# Altium footprint library PCB1.PcbLib: 27 footprints (part 1 of 2)
Each footprint in its own frame and in the unit in brackets; x right, y up, seen from the top. Pads: shape width x height; smd on the part's side, far side on the other; paste and mask are expansions set on the pad; w line width, h text height; cw(c..) or ccw(c..) is an arc to the next point about the centre after c.
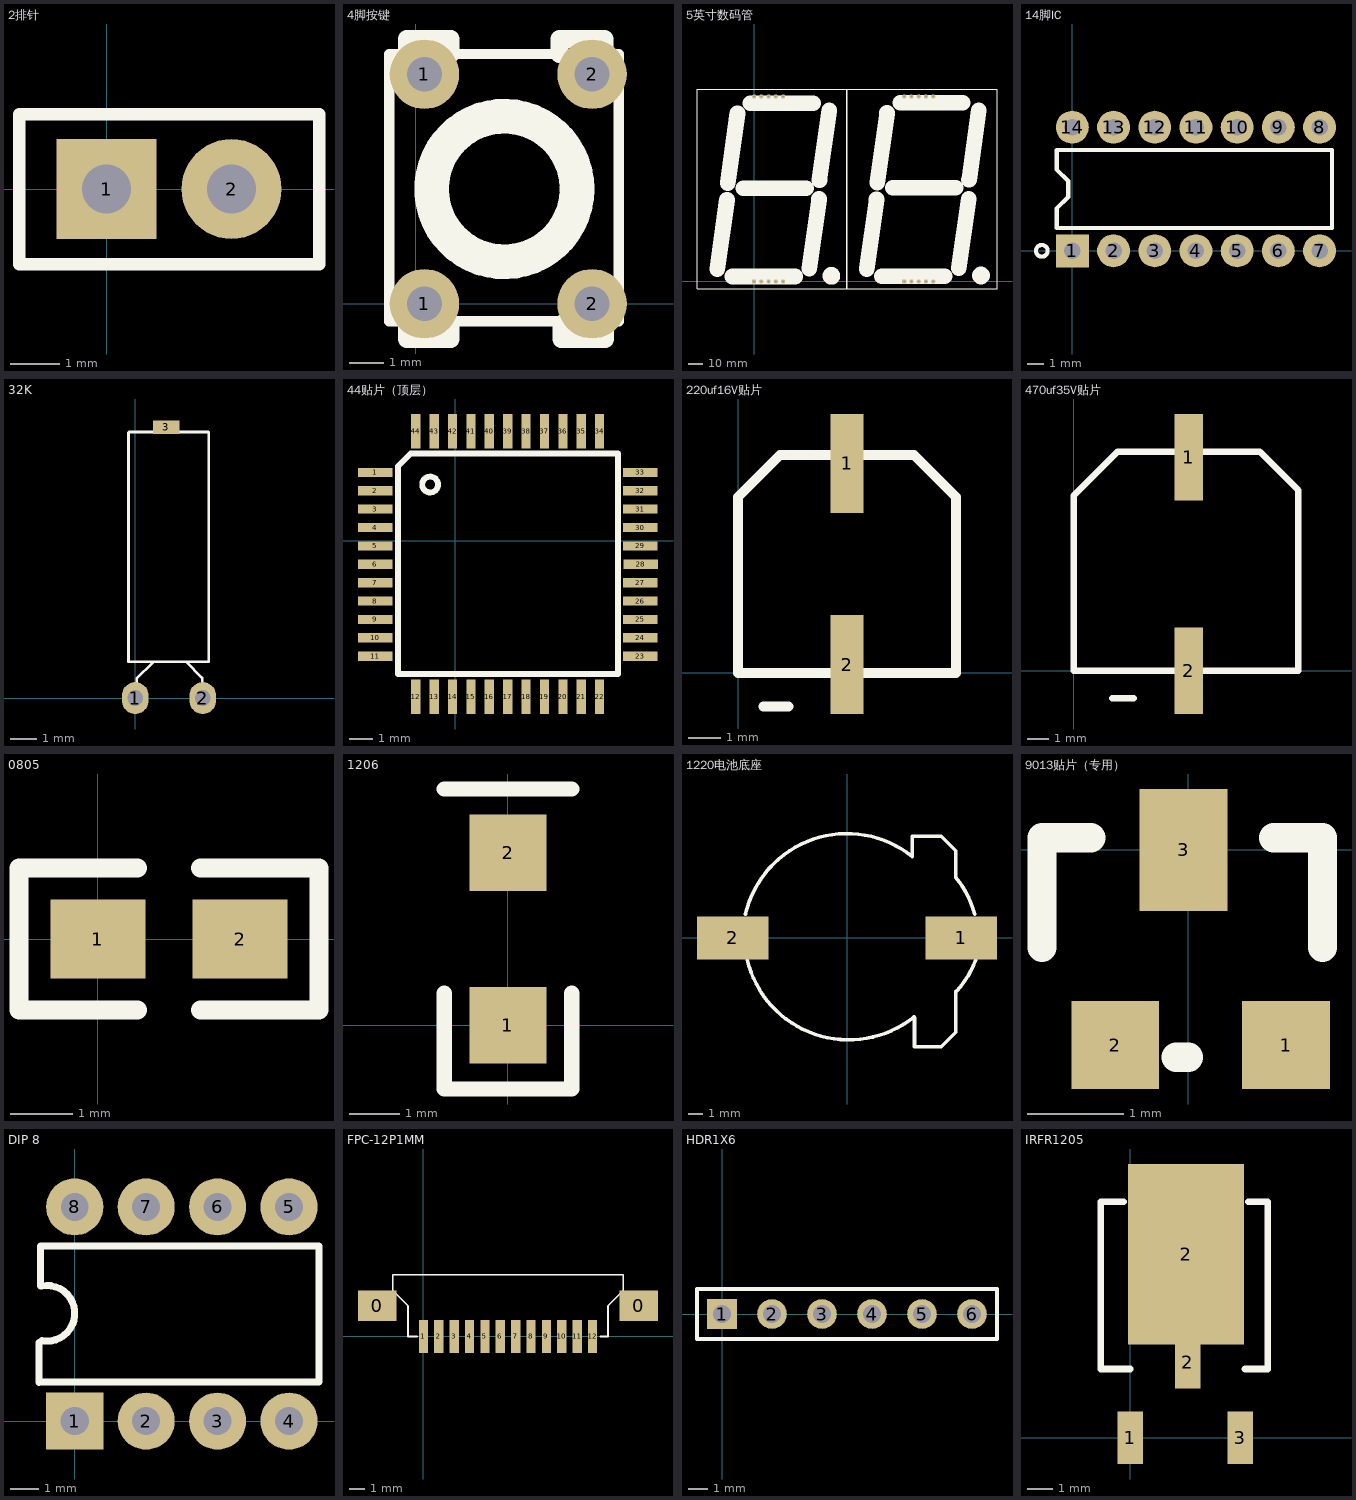
[diagram p0: the footprints below, top view; thin cyan lines are the x and y axes]

## 2排针 [mil]
pads (2):
  rect 80x80 hole 39.37: 1(0,0)
  round 80 hole 39.37: 2(100,0)
Top Overlay:
  lines w10: -70,-60 170,-60 170,60 -70,60 -70,-60

## 4脚按键 [mm]
pads (4):
  round 2 hole 1: 1(0.254,0) 1(0.254,6.604) 2(5.08,0) 2(5.08,6.604)
Top Overlay:
  circle w1: c2.554,3.302 r2.094
  lines w0.3: -0.762,-0.508 -0.762,7.188 5.842,7.188 5.842,-0.508 -0.762,-0.508
  lines w0.508: -0.254,-0.584 -0.254,-1.016 1.016,-1.016 1.016,-0.584 ; -0.254,7.188 -0.254,7.62 1.016,7.62 1.016,7.188 ; 4.14,7.188 4.14,7.62 5.436,7.62 5.436,7.188 ; 4.191,-0.584 4.191,-1.016 5.461,-1.016 5.461,-0.584

## 5英寸数码管 [mm]
pads (20):
  rect 3x3 hole 1.2: 1(0,0) 11(105.134,0)
  round 3 hole 1.2: 2(5.08,0) 3(10.16,0) 4(15.24,0) 5(20.32,0) 6(20.32,129.54) 7(15.24,129.54) 8(10.16,129.54) 9(5.08,129.54) 10(0,129.54) 12(110.214,0) 13(115.294,0) 14(120.374,0) 15(125.454,0) 16(125.454,129.54) 17(120.374,129.54) 18(115.294,129.54) 19(110.214,129.54) 20(105.134,129.54)
Top Overlay:
  circle w0.254: c157.001,5.867 r3.08
  circle w0.254: c52.883,5.842 r3.08
  circle w6.2: c158.953,4.191 r3.08
  circle w6.2: c54.178,3.937 r3.08
  lines w0.1: -39.976,-5.08 -39.976,134.645 65.024,134.645 65.024,-5.08 -39.976,-5.08 ; 65.158,-5.08 170.158,-5.08 170.158,134.645 65.158,134.645 65.158,-5.08
  lines w0.3: -21.79,11.557 -21.536,11.303 ; -20.752,13.843 -20.371,13.462 -20.498,13.335 ; -20.574,12.446 -20.193,12.065 -20.32,11.938 ; 82.985,11.811 83.239,11.557 ; 84.023,14.097 84.404,13.716 84.277,13.589 ; 84.56,12.192 84.814,11.938
  lines w11: -25.832,8.481 -18.974,57.277 ; -18.466,68.961 -11.608,117.757 ; -15.164,3.429 28.778,3.429 ; -7.544,65.405 36.398,65.405 ; -2.464,124.841 41.478,124.841 ; 38.684,8.989 45.542,57.785 ; 45.796,70.965 52.654,119.761 ; 78.943,8.735 85.801,57.531 ; 86.309,69.215 93.167,118.011 ; 89.611,3.683 133.553,3.683 ; 97.231,65.659 141.173,65.659 ; 102.311,125.095 146.253,125.095 ; 143.459,9.243 150.317,58.039 ; 150.571,71.219 157.429,120.015

## 14脚IC [mil]
pads (14):
  rect 80x80 hole 40: 1(0,0)
  round 80 hole 40: 2(100,0) 3(200,0) 4(300,0) 5(400,0) 6(500,0) 7(600,0) 8(600,300) 9(500,300) 10(400,300) 11(300,300) 12(200,300) 13(100,300) 14(0,300)
Top Overlay:
  circle w10: c-74.14,0 r14.14
  lines w10: -38,55 630,55 630,245 -38,245 -38,197.5 -10,169.5 -10,130.5 -38,102.5 -38,55

## 32K [mm]
pads (3):
  oval 1x1.2 hole 0.6: 1(0,0) 2(2.54,0)
  rect 1x0.5 smd: 3(1.168,10.185)
Top Overlay:
  lines w0.1: 0.051,0.533 0.051,0.737 0.66,1.346 ; 1.905,1.372 2.515,0.762 2.515,0.559 ; -0.254,1.372 -0.254,9.982 -0.229,10.008 2.743,10.008 2.769,9.982 2.769,1.372 -0.254,1.372

## 44贴片（顶层） [mm]
pads (44):
  rect 1.5x0.4 smd: 1(-3.492,2.971) 2(-3.492,2.171) 3(-3.492,1.371) 4(-3.492,0.571) 5(-3.492,-0.229) 6(-3.492,-1.029) 7(-3.492,-1.829) 8(-3.492,-2.629) 9(-3.492,-3.429) 10(-3.492,-4.229) 11(-3.492,-5.029) 23(8.039,-5.029) 24(8.039,-4.229) 25(8.039,-3.429) 26(8.039,-2.629) 27(8.039,-1.829) 28(8.064,-1.029) 29(8.039,-0.229) 30(8.039,0.571) 31(8.039,1.371) 32(8.039,2.171) 33(8.039,2.971)
  rect 0.4x1.5 smd: 12(-1.727,-6.795) 13(-0.927,-6.795) 14(-0.127,-6.795) 15(0.673,-6.795) 16(1.473,-6.795) 17(2.273,-6.795) 18(3.073,-6.795) 19(3.873,-6.795) 20(4.673,-6.795) 21(5.473,-6.795) 22(6.273,-6.795) 34(6.273,4.762) 35(5.473,4.762) 36(4.673,4.762) 37(3.873,4.762) 38(3.073,4.762) 39(2.273,4.762) 40(1.473,4.762) 41(0.673,4.762) 42(-0.127,4.762) 43(-0.927,4.762) 44(-1.727,4.762)
Top Overlay:
  circle w0.254: c-1.105,2.441 r0.346
  lines w0.254: -2.502,-5.798 -2.502,3.238 -1.943,3.797 -1.867,3.797 7.068,3.797 7.068,-5.798 6.947,-5.804 -2.496,-5.804

## 220uf16V贴片 [mm]
pads (2):
  rect 1x3 smd: 1(3.302,6.35) 2(3.302,0.254)
Top Overlay:
  lines w0.3: 0.762,-1.016 1.524,-1.016 ; 6.6,0 0,0 0,5.334 1.27,6.604 5.334,6.604 6.604,5.334 6.604,0

## 470uf35V贴片 [mm]
pads (2):
  rect 1.3x4 smd: 1(5.334,9.906) 2(5.334,0)
Top Overlay:
  lines w0.3: 1.778,-1.27 2.794,-1.27 ; 10.338,0 0,0 0,8.128 2.032,10.16 8.636,10.16 10.414,8.382 10.414,0

## 0805 [mil]
pads (2):
  rect 60x50 smd: 1(0,0) 2(90,0)
Top Overlay:
  lines w12: 25,-45 -50,-45 -50,45 25,45 ; 65,-45 140,-45 140,45 65,45

## 1206 [mil]
pads (2):
  rect 60x60 smd: 1(0,0) 2(0,135)
Top Overlay:
  lines w12: -50,25 -50,-50 50,-50 50,25 ; -50,185 50,185

## 1220电池底座 [mm]
pads (2):
  rect 5x3 smd: 1(8,0) 2(-8,0)
Top Overlay:
  lines w0.254: -7.106,1.672 cw(c0,0) 4.56,5.7 ; -6.985,-1.524 ccw(c0.118,0.16) 4.688,-5.532 ; 4.572,5.69 4.572,7.112 6.604,7.112 7.62,6.096 7.62,4.242 ; 4.724,-5.588 4.724,-7.62 6.604,-7.62 7.62,-6.604 7.62,-3.74 ; 7.611,4.23 cw(c2.54,0) 8.931,1.662 ; 7.653,-3.74 ccw(c2.821,0.761) 9.017,-1.524

## 9013贴片（专用） [mil]
pads (3):
  rect 36x36 smd: 1(40,-80) 2(-30,-80)
  rect 36x50 smd: 3(-2,0)
Top Overlay:
  lines w12: -60,-40 -60,5 -40,5 ; -5,-85 0,-85 ; 35,5 55,5 55,-40

## DIP 8 [mil]
pads (8):
  rect 80x80 hole 39.37: 1(0,0)
  round 80 hole 39: 2(100,0) 3(200,0) 4(300,0) 5(300,300) 6(200,300) 7(100,300) 8(0,300)
Top Overlay:
  lines w10: -50,54.37 -50,110 ; -48,55 342,55 342,245 -48,245 -48,189.37 ; -46.05,189.37 cw(c-39.02,150.98) -45.79,112.54

## FPC-12P1MM [mm]
pads (14):
  rect 2.5x2 smd: 0(-3,2) 0(14,2)
  rect 0.6x2.15 smd: 1(0,0) 2(1,0) 3(2,0) 4(3,0) 5(4,0) 6(5,0) 7(6,0) 8(7,0) 9(8,0) 10(9,0) 11(10,0) 12(11,0)
Top Overlay:
  lines w0.1: -0.4,0 -1,0 -1,2 -2,3 -2,4 13,4 13,3 12,2 12,0 11.5,0

## HDR1X6 [mm] "Connector; Header; 6 Position"
pads (6):
  rect 1.5x1.5 hole 0.9: 1(0,0)
  round 1.5 hole 0.9: 2(2.54,0) 3(5.08,0) 4(7.62,0) 5(10.16,0) 6(12.7,0)
Top Overlay:
  lines w0.2: -1.27,-1.27 -1.27,1.27 13.97,1.27 13.97,-1.27 -1.27,-1.27

## IRFR1205 [mm]
pads (4):
  rect 1x2.032 smd: 1(0,0) 2(2.23,2.921) 3(4.262,0)
  rect 4.5x7 smd: 2(2.159,7.112)
Top Overlay:
  lines w0.254: -0.254,9.144 -1.143,9.144 -1.143,2.667 0,2.667 ; 4.445,2.667 5.334,2.667 5.334,9.144 4.572,9.144